# Altium footprint library DRA_PDM_RX_OHM_PIN_300UM.PcbLib: 1 footprints
Each footprint in its own frame and in the unit in brackets; x right, y up, seen from the top. Pads: shape width x height; smd on the part's side, far side on the other; paste and mask are expansions set on the pad; w line width, h text height; cw(c..) or ccw(c..) is an arc to the next point about the centre after c.
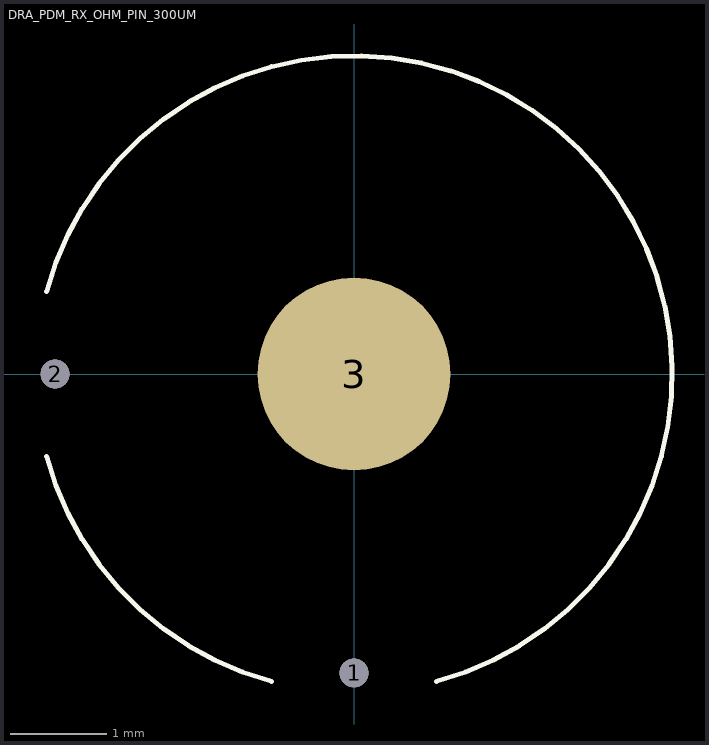
[diagram p0: the footprint, top view; thin cyan lines are the x and y axes]

## DRA_PDM_RX_OHM_PIN_300UM [mm] "DRA_RX"
height 8.7
pads (3):
  round 0.3 hole 0.3 unplated mask+0.2: 1(0,-3.1) 2(-3.1,0)
  round 2 smd paste-1 mask+2.35: 3(0,0)
Top Overlay:
  lines w0.05: -3.188,-0.854 ccw(c0,0) -0.854,-3.188 ; -3.188,0.854 cw(c0,0) 0.854,-3.188
3D body: height 8.7, standoff 0, extent -3.287,-3.1 3.287,3.487